# Altium schematic symbol library Picollo.SCHLIB: 11 symbols
Pins are listed as number, name and electrical type; pins without a type are passive.

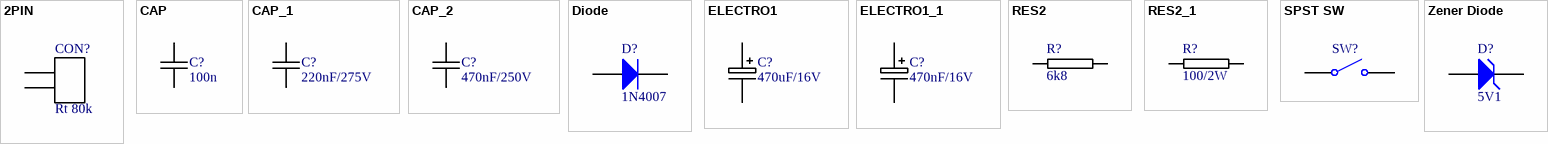
[diagram p0: symbols 2PIN to Zener Diode]

## 2PIN
designator CON?, comment Rt 80k
footprint SIP2
footprint FLY2
pins: 1, 2

## CAP
designator C?, comment 100n
footprint RAD0.1
footprint RAD0.2
footprint RAD0.4
pins: 1, 2

## CAP_1
designator C?, comment 220nF/275V
footprint RAD0.1
footprint RAD0.2
footprint RAD0.4
pins: 1, 2

## CAP_2
designator C?, comment 470nF/250V
footprint RAD0.1
footprint RAD0.2
footprint RAD0.4
pins: 1, 2

## Diode
designator D?, comment 1N4007
Default Diode; Published: 8-Jun-2000; LatestRevisionDate: 17-Jul-2002; LatestRevisionNote: Re-released for DXP Platform.; PackageVersion: Sep-1996; PackageReference: SMC; Publisher: Altium Limited; PackageDescription: DO-214-AB/SMC; 2 C-Bend Leads; Body 7.9 x 5.9 mm, inc. leads (LxW); Code_JEDEC: DO-214-AB
footprint SMC (DO-214-AB/SMC; 2 C-Bend Leads; Body 7.9 x 5.9 mm, inc. leads (LxW))
simulation model DIODE (Diode)
signal-integrity model Diode
footprint D-2N4000
footprint 1N4148 (Diode)
pins: 1 A, 2 K

## ELECTRO1
designator C?, comment 470uF/16V
Part Field 1: *; Part Field 2: *; Part Field 3: *; Part Field 4: *; Part Field 5: *; Part Field 6: *; Part Field 7: *; Part Field 8: *; Part Field 9: *; Part Field 10: *; Part Field 11: *; Part Field 12: *; Part Field 13: *; Part Field 14: *; Part Field 15: *; Part Field 16: *
footprint CEA2.5
footprint CEA3.5
footprint CEA5
footprint CEA3.5/8/16 (El Capacitor)
pins: 1, 2

## ELECTRO1_1
designator C?, comment 470nF/16V
Part Field 1: *; Part Field 2: *; Part Field 3: *; Part Field 4: *; Part Field 5: *; Part Field 6: *; Part Field 7: *; Part Field 8: *; Part Field 9: *; Part Field 10: *; Part Field 11: *; Part Field 12: *; Part Field 13: *; Part Field 14: *; Part Field 15: *; Part Field 16: *
footprint CEA2.5
footprint CEA3.5
footprint CEA5
footprint CEA3.5/8/16 (El Capacitor)
pins: 1, 2

## RES2
designator R?, comment 6k8
footprint R125
footprint R250
footprint R500
footprint R1000
pins: 1, 2

## RES2_1
designator R?, comment 100/2W
footprint R125
footprint R250
footprint R500
footprint R1000
pins: 1, 2

## SPST SW
designator SW?, comment Single-Pole, Single-Throw Switch  (value not drawn)
closed: 0; Rclosed: 1m; Ropen: 1Meg; SimulationGenericComponent: True
simulation model SPST_SWITCH (-------------------------)
pins: 1, 2

## Zener Diode
designator D?  BV: 5V1  (hidden comment: Zener Diode)
AF: 1; BV_MAX: 1e99; CJO: 0; EG: 1.11; FC: 0.5; IBV: 0.001; IS: 1e-14; MJSW: 0.33; NTUN: 30; TNOM: 27; XTI: 3; SimulationGenericComponent: True; CJP: 0; CTA: 0; CTP: 0; FCS: 0.5; FV_MAX: 1e99; IKF: 0; IKR: 0; ISR: 1e-14; JSW: 0; JTUN: 0; JTUNSW: 0; KEG: 1; KF: 0; LEVEL: 1; N: 1; NBV: 1; NR: 1; NS: 1; PHP: 1; RS: 0; TCV: 0; TLEV: 0; TLEVC: 0; TM1: 0; TM2: 0; TPB: 0; TPHP: 0; TRS: 0; TRS2: 0; TT: 0; TTT1: 0; TTT2: 0; VJ: 1; XTITUN: 3
simulation model diode (Diodes)
pins: 1 A, 2 K